# EAGLE library part DS600U (library Temp_IC)
DS600 ±0.5 Accurate Analog-Output Temperature Sensor DOUBLE CHECK FOOTPRINT BEFORE USE, PLACEHOLDER
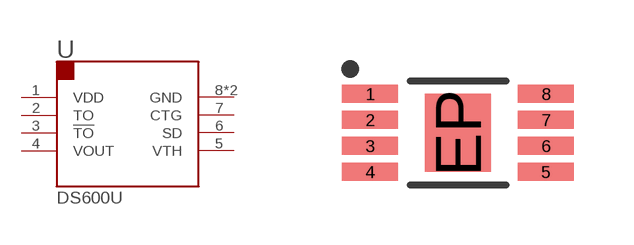
[diagram p1: symbol with the pads of MSOP08-EP; footprint MSOP08-EP]

Designator prefix U

## DS600U, DS600U+ (PARTNO: 01-100367-00)  [MSOP08-EP]
1  VDD  pwr
2  TO  out
3  !TO  out
4  VOUT  out
5  VTH  in
6  SD  in
7  CTG  pwr
8  GND  pwr
EP  GND  pwr

## Footprint MSOP08-EP (pad centres in mm)
uSOP08
smd 1.4 x 0.45: 1 -2.2,0.975; 2 -2.2,0.325; 3 -2.2,-0.325; 4 -2.2,-0.975; 5 2.2,-0.975; 6 2.2,-0.325; 7 2.2,0.325; 8 2.2,0.975
smd 1.65 x 1.95: EP 0,0